# Altium footprint library HSBNE-Vend.PcbLib: 47 footprints (part 2 of 3)
Each footprint in its own frame and in the unit in brackets; x right, y up, seen from the top. Pads: shape width x height; smd on the part's side, far side on the other; paste and mask are expansions set on the pad; w line width, h text height; cw(c..) or ccw(c..) is an arc to the next point about the centre after c.
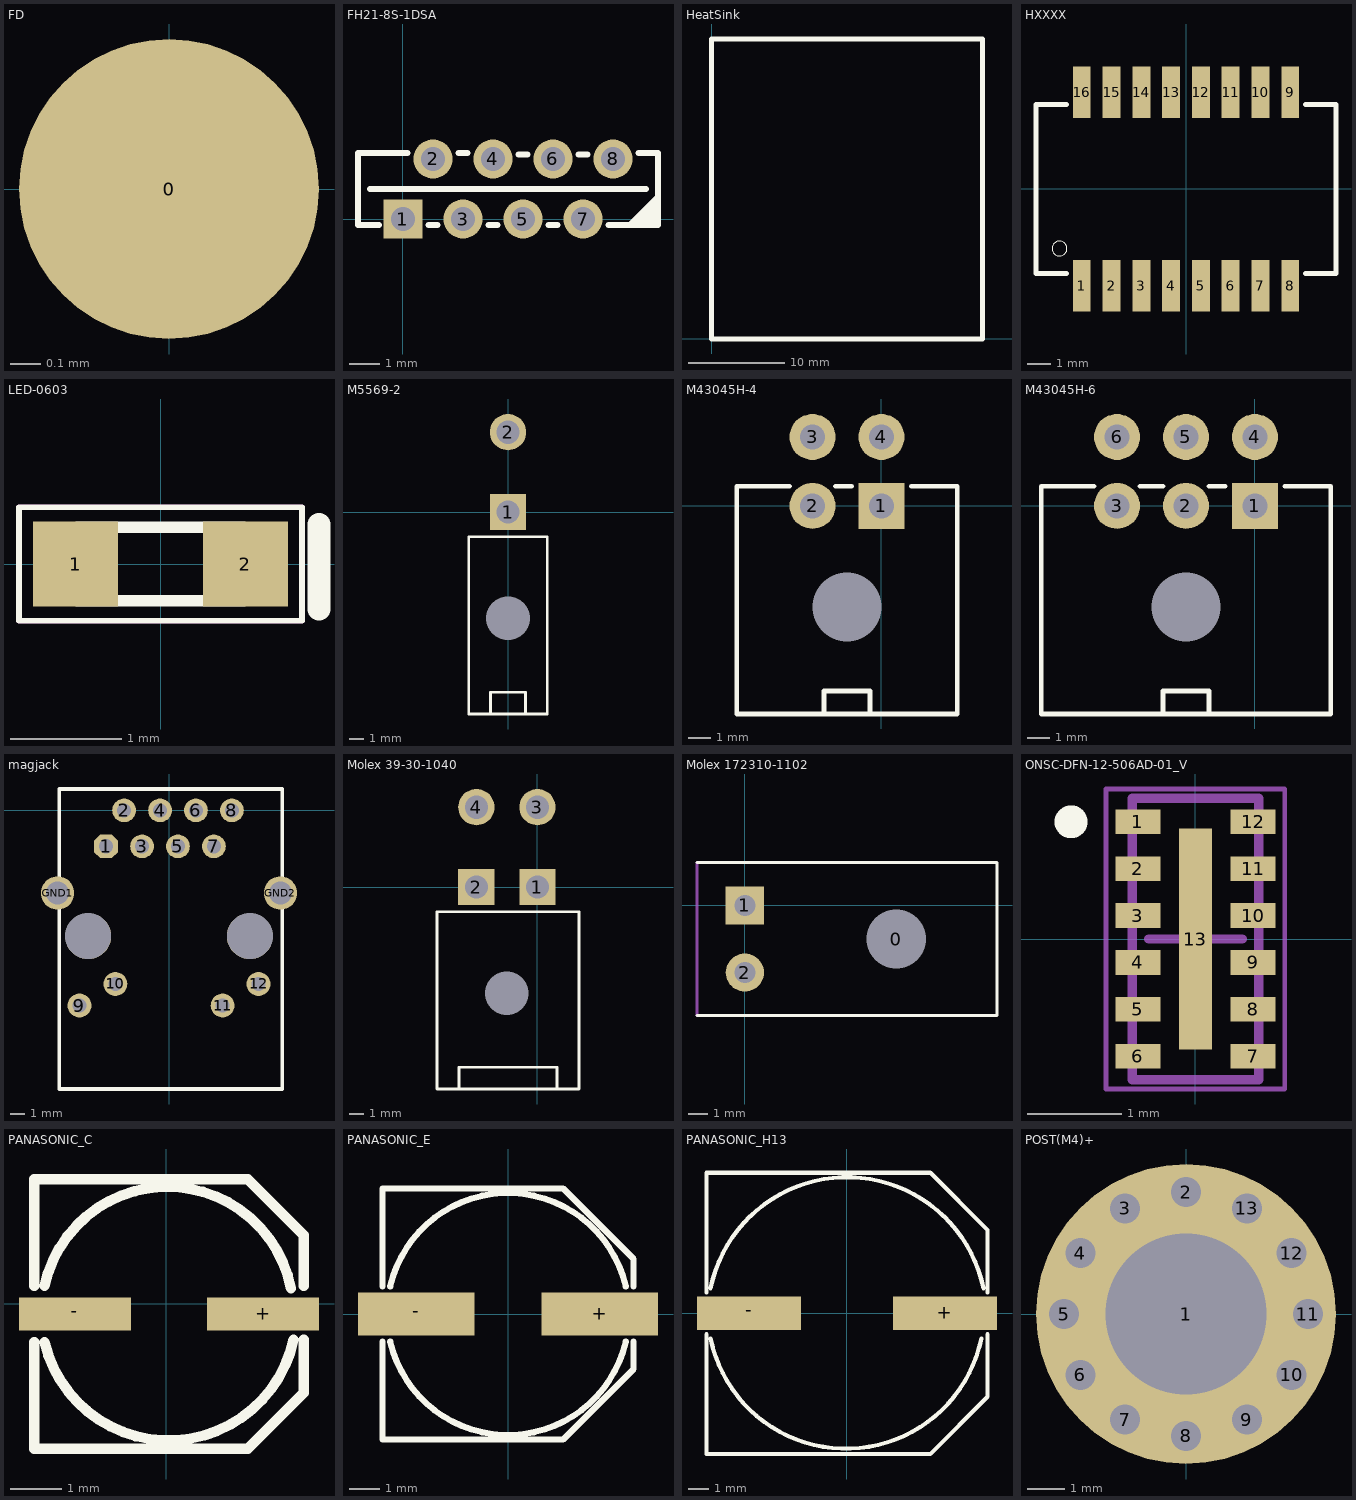
[diagram p1: the footprints below, top view; thin cyan lines are the x and y axes]

## FD [mm]
pads (1):
  round 1 smd paste-2 mask+0.5: 0(0,0)

## FH21-8S-1DSA [mm]
pads (8):
  rect 1.3x1.3 hole 0.8: 1(0,0)
  round 1.3 hole 0.8: 2(1,2) 3(2,0) 4(3,2) 5(4,0) 6(5,2) 7(6,0) 8(7,2)
Top Overlay:
  lines w0.2: -1.1,1 8.1,1 ; -0.8,-0.2 -1.5,-0.2 -1.5,2.2 0.15,2.2 ; 0.85,-0.2 1.15,-0.2 ; 1.85,2.2 2.15,2.2 ; 2.85,-0.2 3.15,-0.2 ; 3.85,2.15 4.15,2.15 ; 4.85,-0.2 5.15,-0.2 ; 5.85,2.15 6.15,2.15 ; 6.85,-0.2 8.5,-0.2 8.5,2.2 7.85,2.2 ; 8.5,0 8.3,-0.2 8.05,-0.2 8.5,0.25 8.5,0.5 7.8,-0.2 7.55,-0.2 8.5,0.75

## HeatSink [mm]
Top Overlay:
  lines w0.5: 0,0 28,0 28,31 0,31 0,0
3D body: height 6, standoff 0, extent 0,0 27.94,30.988

## HXXXX [mm]
pads (16):
  rect 0.76x2.2 smd: 1(-4.445,-4.128) 2(-3.175,-4.128) 3(-1.905,-4.128) 4(-0.635,-4.128) 5(0.635,-4.128) 6(1.905,-4.128) 7(3.175,-4.128) 8(4.445,-4.128) 9(4.445,4.127) 10(3.175,4.127) 11(1.905,4.127) 12(0.635,4.127) 13(-0.635,4.127) 14(-1.905,4.127) 15(-3.175,4.127) 16(-4.445,4.127)
Top Overlay:
  circle w0.008: c-5.397,-2.54 r0.318
  lines w0.203: -5.1,-3.6 -6.4,-3.6 -6.4,3.6 -5.1,3.6 ; 5.1,-3.6 6.4,-3.6 6.4,3.6 5.1,3.6
3D body: height 6, standoff 0, extent -6.375,-4.275 6.375,4.125

## LED-0603 [mil]
pads (2):
  rect 30x30 smd: 1(-30,0) 2(30,0)
Top Overlay:
  rectangle: -30,-15 -15,15
  rectangle: 15,-15 30,15
  lines w4: -20,-13 20,-13 ; -20,13 20,13
  lines w8: 56,-16 56,14
Top Overlay keep-out:
  lines w2: -50,-20 50,-20 50,20 -50,20 -50,-20
3D body "SW3dPS-LED SMD0603.STEP": height 26.76, standoff 0.19, extent -33.17,-14.47 31.79,14.07

## M5569-2 [mm]
pads (3):
  rect 2.5x2.5 hole 1.6: 1(0,0)
  round 2.5 hole 1.6: 2(0,5.5)
  round 0 hole 3 unplated: A(0,-7.3)
Top Overlay:
  lines w0.2: -1.2,-13.9 -1.2,-12.4 1.2,-12.4 1.2,-13.9 ; -2.7,-13.9 -2.7,-1.7 2.7,-1.7 2.7,-13.9 -2.7,-13.9
3D body "039301020.stp": height 11.4, standoff -3.6, extent -2.72,-13.907 3.08,6.028

## M43045H-4 [mm]
height 1
pads (5):
  rect 2x2 hole 1.1: 1(0,0)
  round 2 hole 1.1: 2(-3,0) 3(-3,3) 4(0,3)
  round 0 hole 3 unplated: 5(-1.5,-4.4)
Top Overlay:
  lines w0.2: -4,0.85 -6.3,0.85 -6.3,-9.05 3.3,-9.05 3.3,0.85 1.3,0.85 ; -2.5,-9.05 -2.5,-8.05 -0.5,-8.05 -0.5,-9.05 ; -2,0.85 -1.3,0.85
3D body "430450400.stp": height 8.83, standoff -3.12, extent -6.6,-8.9 3.55,3.3

## M43045H-6 [mm]
pads (7):
  rect 2x2 hole 1.1: 1(0,0)
  round 2 hole 1.1: 2(-3,0) 3(-6,0) 4(0,3) 5(-3,3) 6(-6,3)
  round 0 hole 3 unplated: 7(-3,-4.4)
Top Overlay:
  lines w0.2: -7,0.85 -9.3,0.85 -9.3,-9.05 3.3,-9.05 3.3,0.85 1.3,0.85 ; -5,0.85 -4,0.85 ; -4,-9.05 -4,-8.05 -2,-8.05 -2,-9.05 ; -2,0.85 -1.3,0.85
3D body "430450600.stp": height 8.83, standoff -3.12, extent -9.575,-8.95 3.575,3.25

## magjack [mm]
pads (16):
  oct 1.676x1.676 hole 1: 1(-4.445,-2.54)
  round 1.676 hole 1: 2(-3.175,0) 3(-1.905,-2.54) 4(-0.635,0) 5(0.635,-2.54) 6(1.905,0) 7(3.175,-2.54) 8(4.445,0) 9(-6.325,-13.79) 10(-3.785,-12.27) 11(3.785,-13.79) 12(6.325,-12.27)
  round 2.355 hole 1.6: GND1(-7.875,-5.84) GND2(7.875,-5.84)
  round 3.25 hole 3.25 unplated: ""(-5.715,-8.89) ""(5.715,-8.89)
Top Overlay:
  lines w0.254: -7.75,-19.69 -7.75,1.51 8,1.51 8,-19.69 -7.75,-19.69
3D body "ARJC02-111009D.STEP": height 13.5, standoff -3.65, extent -7.923,-19.695 8.177,1.406

## Molex 39-30-1040 [mm]
pads (5):
  rect 2.5x2.5 hole 1.6: 1(0,0) 2(-4.2,0)
  round 2.5 hole 1.6: 3(0,5.5) 4(-4.2,5.5)
  round 0 hole 3 unplated: A(-2.1,-7.3)
Top Overlay:
  lines w0.2: -5.4,-13.9 -5.4,-12.4 -3,-12.4 1.351,-12.4 1.351,-13.9 ; -2.549,-13.9 2.851,-13.9 2.851,-1.7 -2.549,-1.7 ; -1.5,-13.9 -6.9,-13.9 -6.9,-1.7 -1.5,-1.7
3D body "039301040.stp": height 11.4, standoff -3.6, extent -6.961,-13.904 3.039,6.03

## Molex 172310-1102 [mm] "Molex 172310-1102"
height 8.96
pads (3):
  round 1.5 hole 3.1 unplated: 0(7.91,-1.75)
  rect 2x2 hole 1.1: 1(0,0)
  round 2 hole 1.1: 2(0,-3.5)
Top Overlay:
  lines w0.152: -2.5,-5.75 13.16,-5.75 13.16,2.25 -2.5,2.25
Mechanical 15:
  lines w0.152: -2.5,-5.75 -2.5,2.25
3D body "1723101102.stp": height 9.06, standoff -3.1, extent -0.297,-6.278 15.33,2.722

## ONSC-DFN-12-506AD-01_V [mm] "SON, 12-Leads, Body 3x1.35mm, Pitch 0.5mm, Thermal Pad 2.352x0.351mm"
height 1
pads (13):
  rect 0.479x0.265 smd mask+0.05: 1(-0.614,1.25) 2(-0.614,0.75) 3(-0.614,0.25) 4(-0.614,-0.25) 5(-0.614,-0.75) 6(-0.614,-1.25) 7(0.614,-1.25) 8(0.614,-0.75) 9(0.614,-0.25) 10(0.614,0.25) 11(0.614,0.75) 12(0.614,1.25)
  rect 0.351x2.352 smd mask+0.05: 13(0,0)
Top Overlay:
  circle w0.25: c-1.328,1.25 r0.05
Mechanical 13:
  lines w0.1: -0.675,-1.5 -0.675,1.5 0.675,1.5 0.675,-1.5 -0.675,-1.5
Mechanical 15:
  lines w0.05: -0.954,-1.6 -0.954,1.6 0.954,1.6 0.954,-1.6 -0.954,-1.6
  lines w0.1: -0.5,0 0.5,0 ; 0,-0.5 0,0.5
3D body: height 1, standoff 0, extent -0.675,-1.5 0.675,1.5

## PANASONIC_C [mm]
pads (2):
  rect 2.2x0.65 smd: +(1.9,-0.2) -(-1.8,-0.2)
Top Overlay:
  lines w0.102: -2.6,-2.85 1.6,-2.85 2.7,-1.75 ; -2.6,2.45 1.6,2.45 2.7,1.35
  lines w0.203: -2.6,-0.75 -2.6,-2.85 1.6,-2.85 2.7,-1.75 2.7,-0.7 ; -2.6,0.35 -2.6,2.45 1.6,2.45 2.7,1.35 2.7,0.35 ; -2.4,-0.75 ccw(c0.044,-0.175) 2.5,-0.7 ; -2.4,0.35 cw(c0.02,-0.175) 2.45,0.3
3D body: height 1, standoff 0, extent -2.625,-2.875 2.75,2.5
3D body: height 5.4, standoff 0, extent -2.455,-2.72 2.525,2.27

## PANASONIC_E [mm]
pads (2):
  rect 3.8x1.4 smd: +(3,0) -(-3,0)
Top Overlay:
  lines w0.102: -4.1,-4.1 1.8,-4.1 4.1,-1.8 ; -4.1,4.1 1.8,4.1 4.1,1.8
  lines w0.203: -4.1,-0.9 -4.1,-4.1 1.8,-4.1 4.1,-1.8 4.1,-0.9 ; -4.1,0.9 -4.1,4.1 1.8,4.1 4.1,1.8 4.1,0.9 ; -3.85,-0.9 ccw(c0,0) 3.85,-0.9 ; -3.85,0.9 cw(c0,0) 3.85,0.9
3D body: height 1, standoff 0, extent -4.125,-4.125 4.15,4.15
3D body: height 6.2, standoff 0, extent -3.993,-3.992 3.975,3.992

## PANASONIC_H13 [mm]
pads (2):
  rect 5x1.6 smd: +(4.7,0) -(-4.7,0)
Top Overlay:
  lines w0.102: -6.75,-6.75 4,-6.75 6.75,-4 ; -6.75,6.75 4,6.75 6.75,4
  lines w0.203: -6.75,-1 -6.75,-6.75 4,-6.75 6.75,-4 6.75,-1 ; -6.75,1 -6.75,6.75 4,6.75 6.75,4 6.75,1 ; -6.55,-1.2 ccw(c-0.05,0.14) 6.45,-1.2 ; -6.55,1.2 cw(c0,-0.151) 6.55,1.2
3D body: height 1, standoff 0, extent -6.75,-6.75 6.75,6.75
3D body: height 13.5, standoff 0, extent -6.326,-6.213 6.125,6.263

## POST(M4)+ [mm]
pads (13):
  round 8 hole 4.3: 1(0,0)
  round 0.8 hole 0.8: 2(0,3.25) 3(-1.625,2.815) 4(-2.815,1.625) 5(-3.25,0) 6(-2.815,-1.625) 7(-1.625,-2.815) 8(0,-3.25) 9(1.625,-2.815) 10(2.815,-1.625) 11(3.25,0) 12(2.815,1.625) 13(1.625,2.815)